# Altium schematic symbol library RMCF0805JT22R0.SchLib: 1 symbol
Pins are listed as number, name and electrical type; pins without a type are passive.

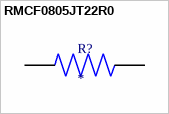
[diagram p0: symbol RMCF0805JT22R0]

## RMCF0805JT22R0
designator R?
MP: RMCF0805JT22R0; Package: None; Price: None; Value: *; Availability: Unavailable
footprint RESC2012X65N
pins: 1, 2